# Altium footprint library SHF-105-01-X-D-SM.PcbLib: 1 footprints
Each footprint in its own frame and in the unit in brackets; x right, y up, seen from the top. Pads: shape width x height; smd on the part's side, far side on the other; paste and mask are expansions set on the pad; w line width, h text height; cw(c..) or ccw(c..) is an arc to the next point about the centre after c.
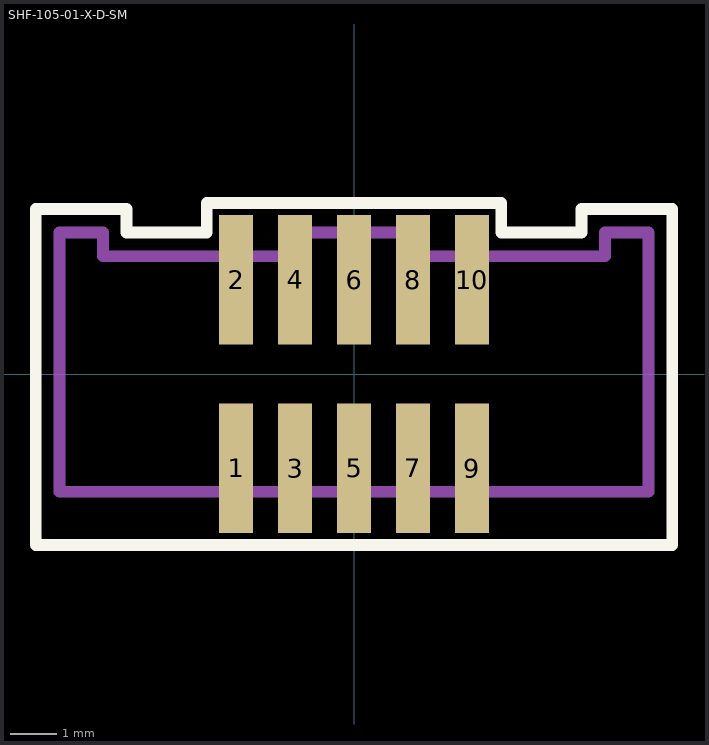
[diagram p0: the footprint, top view; thin cyan lines are the x and y axes]

## SHF-105-01-X-D-SM [mil]
pads (10):
  rect 29x110 smd mask+2: 1(-100,-80) 2(-100,80) 3(-50,-80) 4(-50,80) 5(0,-80) 6(0,80) 7(50,-80) 8(50,80) 9(100,-80) 10(100,80)
Top Overlay:
  lines w10: -270,-145 -270,140 -193,140 -193,120 -125,120 -125,145 125,145 125,120 193,120 193,140 270,140 270,-145 -270,-145
Mechanical 1:
  lines w10: -250,-100 -250,120 -213,120 -213,100 -50,100 -50,120 50,120 50,100 213,100 213,120 250,120 250,-100 -250,-100
  text "J1" at -19.57,-20 h30